# EAGLE library part CUK_DS2PC (library parts)
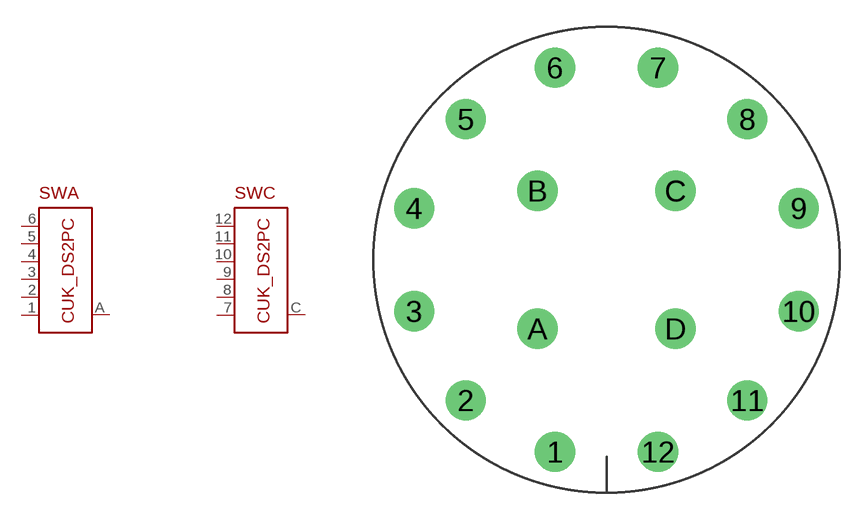
[diagram p2: symbol with the pads of CUK_DS2PC; footprint CUK_DS2PC]

Designator prefix SW; gates A=CUK_DS2PC C=CUK_DS2PC

## CUK_DS2PC  [CUK_DS2PC]
1  A:IN1
2  A:IN2
3  A:IN3
4  A:IN4
5  A:IN5
6  A:IN6
7  C:IN1
8  C:IN2
9  C:IN3
10  C:IN4
11  C:IN5
12  C:IN6
A  A:OUT
C  C:OUT

## Footprint CUK_DS2PC (pad centres in mm)
drill 1.5 round: 1 -2.873,-10.722; 2 -7.848,-7.848; 3 -10.722,-2.873; 4 -10.722,2.873; 5 -7.848,7.848; 6 -2.873,10.722; 7 2.873,10.722; 8 7.848,7.848; 9 10.722,2.873; 10 10.722,-2.873; 11 7.848,-7.848; 12 2.873,-10.722; A -3.85,-3.85; B -3.85,3.85; C 3.85,3.85; D 3.85,-3.85